# Altium schematic symbol library CON_DT12.Schlib: 1 symbol
Pins are listed as number, name and electrical type; pins without a type are passive.

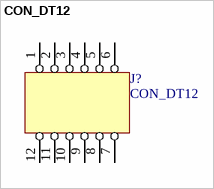
[diagram p0: symbol CON_DT12]

## CON_DT12
designator J?  (no BOM)
Connector, Deutsch 12-pin; 5 Manufacturer P/N: DT 04-12P; 2 Description: Deutsch DT-series 12-pin; 6 P/N: 213-183; 1 Type: Connector, Environmentally-sealed; ComponentLink1Description: Manufacturer Link; ComponentLink1URL: http://www.deutschipd.com/; ComponentLink2Description: Datasheet; ComponentLink3Description: Supplier Link; 3 Footprint: Deutsch 12-pin; 4 Manufacturer: Deutsch
footprint Deutsch 12-pin
pins: 1 VCC, 2 VCC, 3 VCC, 4 VCC, 5, 6, 7, 8, 9, 10, 11, 12